# Altium integrated library Linear Technology Power Management Switching Regulator LT1074-LT8705.IntLib: 2252 symbols (part 134 of 148)
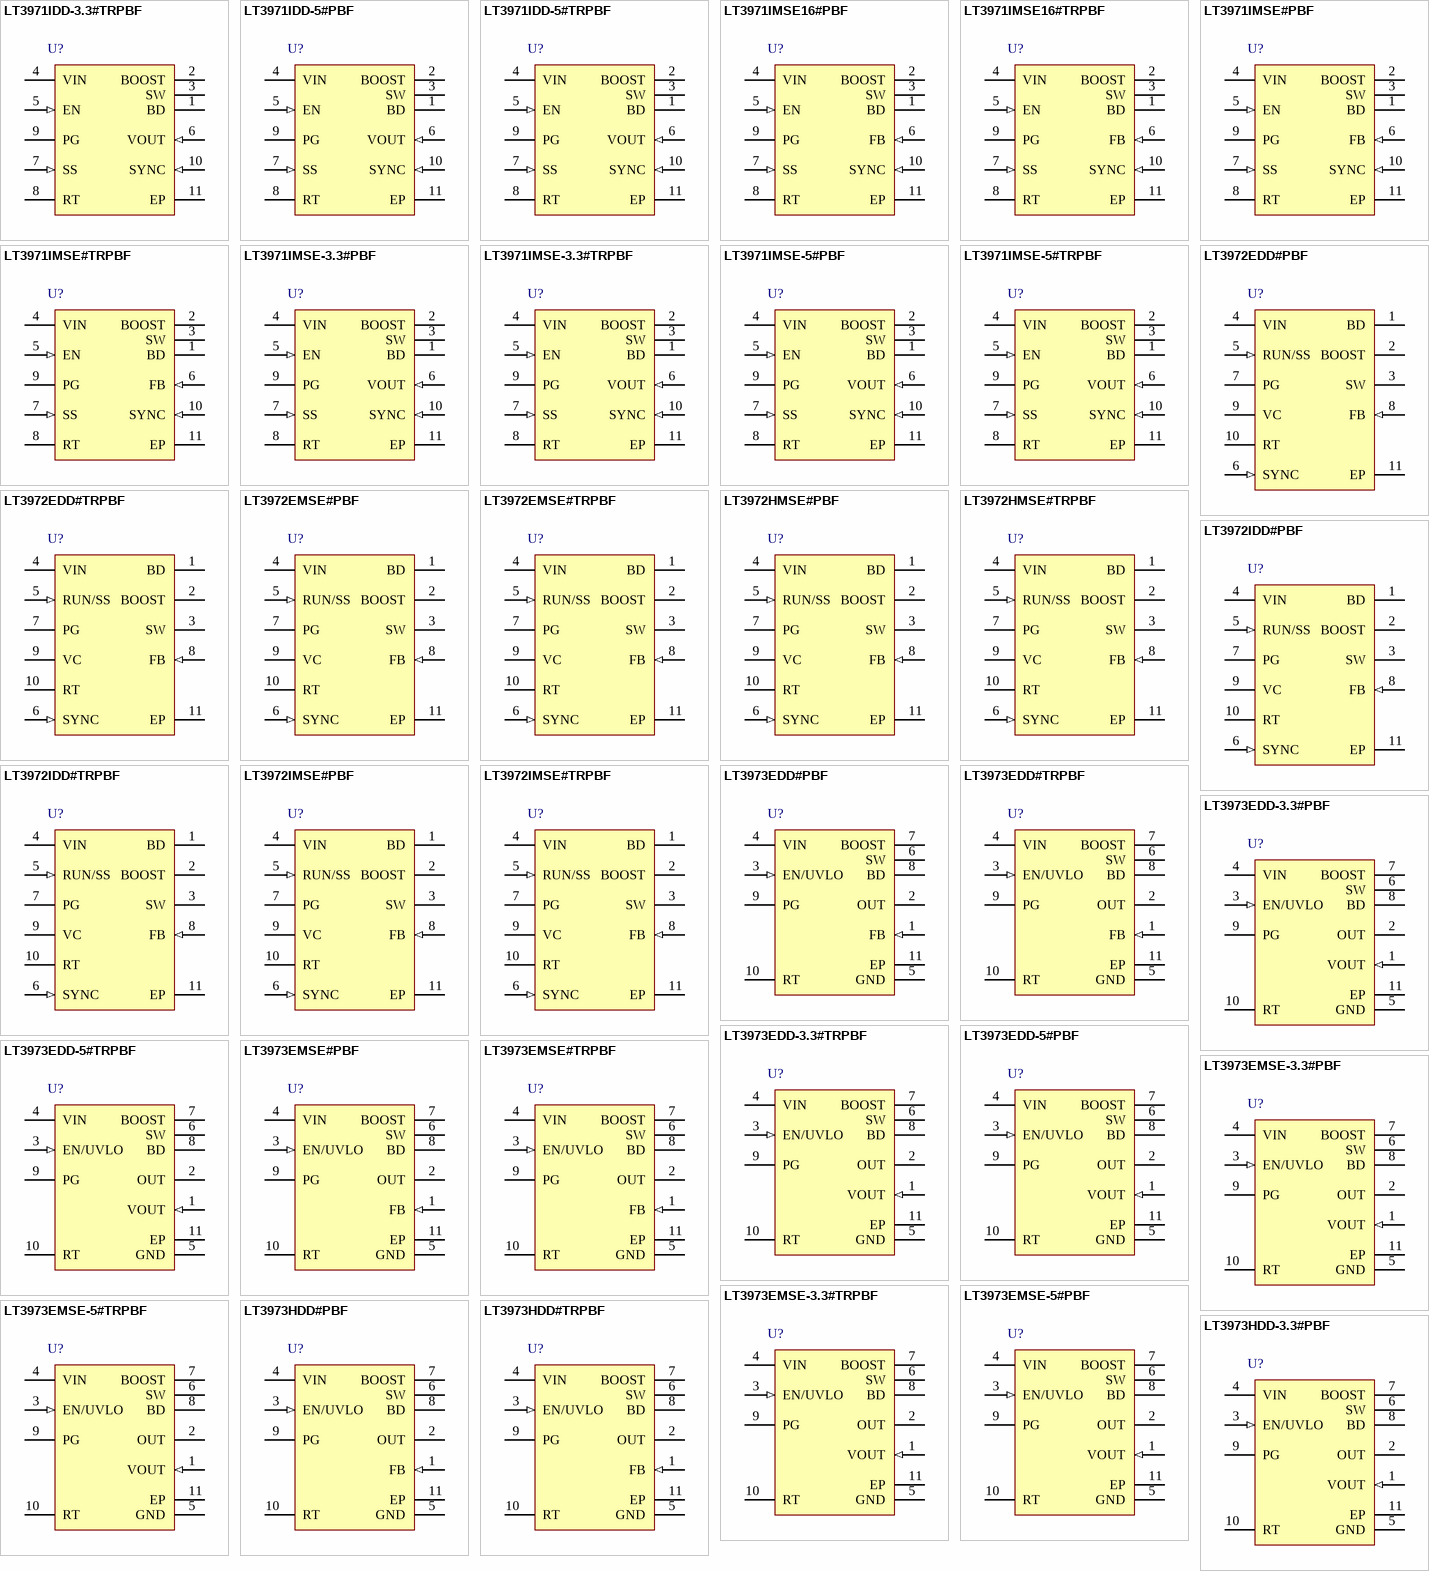
[diagram p204: symbols LT3971IDD-3.3#TRPBF to LT3973HDD-3.3#PBF]

## LT3972IDD#TRPBF
designator U?
3.5 A, 2.4 MHz Step-Down Switching Regulator with 75 uA Quiescent Current, 10-pin SON (DD-10), -40 to 125 degC, Pb-Free, Tape and Reel; Manufacturer: Linear Technology; PartNumber: LT3972IDD#TRPBF; Frequency Adjust Range: 200kHz - 2.4MHz; Number of Outputs: 1; Over Voltage Protection(V): 62; DatasheetVersion: Rev. A; PackageVersion: Rev. C, 06/2010; PackageReference: DD-10; PackageDescription: 10-Pin Plastic DFN, Body 3 x 3 mm, Pitch 0.5 mm; Supplier 1: Digi-Key; Supplier Part Number 1: LT3972IDD#TRPBF-ND; Supplier 2: Newark; Supplier Part Number 2: 31P7620; Packing: Tape and Reel; RoHS: TRUE; Mounting Technology: Surface Mount; Code_JEDEC: MO-229; ComponentLink1Description: Manufacturer URL; ComponentLink1URL: http://www.linear.com/; ComponentLink2Description: Datasheet; ComponentLink2URL: http://cds.linear.com/docs/en/datasheet/3972fa.pdf; ComponentLink3Description: Package Specification; ComponentLink3URL: http://cds.linear.com/docs/en/packaging/DFN_10_05-08-1699.pdf
footprint LT-DD-10_V (SON, 10-Leads, Body 3x3mm, Pitch 0.5mm, Thermal Pad 2.38x1.65mm)
pins: 1 BD (power) "This pin connects to the anode of the boost Schottky diode. BD also supplies current to the internal regulator.", 2 BOOST "This pin is used to provide a drive voltage, higher than the input voltage, to the internal bipolar NPN power switch.", 3 SW (power) "The SW pin is the output of the internal power switch. Connect this pin to the inductor, catch diode and boost capacitor.", 4 VIN (power) "The VIN pin supplies current to internal regulator and to the internal power switch. This pin must be locally bypassed.", 5 RUN/SS (in) "If the shutdown feature is not used, tie this pin to the VIN pin. RUN/SS also provides a soft-start function; see the Applications Information section.", 6 SYNC (in) "This is the external clock synchronization input. Ground this pin for low ripple Burst Mode operation at low output loads. Tie to a clock source for synchronization. Clock edges should have rise and fall times faster than (See Datasheet)", 7 PG (oc) "The PG pin is the open collector output of an internal comparator. PG remains low until the FB pin is within 9% of the final regulation voltage. PG output is valid when VIN is above 3.6V and RUN/SS is high.", 8 FB (in) "Connect the feedback resistor divider tap to this pin.", 9 VC "The VC pin is the output of the internal error amplifier. The voltage on this pin controls the peak switch current. Tie an RC network from this pin to ground to compensate the control loop.", 10 RT "Oscillator Resistor Input. Connecting a resistor to ground from this pin sets the switching frequency.", 11 EP (power) "Ground. The Exposed Pad must be soldered to PCB."

## LT3972IMSE#PBF
designator U?
3.5 A, 2.4 MHz Step-Down Switching Regulator with 75 uA Quiescent Current, 10-pin SOP (MSE-10-EDP), -40 to 125 degC, Pb-Free; Manufacturer: Linear Technology; PartNumber: LT3972IMSE#PBF; Frequency Adjust Range: 200kHz - 2.4MHz; Number of Outputs: 1; Over Voltage Protection(V): 62; DatasheetVersion: Rev. A; PackageVersion: Rev. C, 08/2009; PackageReference: MSE-10; PackageDescription: 10-Pin Plastic MSOP, Exposed Die Pad, Body 3 x 3 mm, Pitch 0.5 mm; Supplier 1: Digi-Key; Supplier Part Number 1: LT3972IMSE#PBF-ND; Supplier 2: Newark; Supplier Part Number 2: 31P7621; RoHS: TRUE; Mounting Technology: Surface Mount; ComponentLink1Description: Manufacturer URL; ComponentLink1URL: http://www.linear.com/; ComponentLink2Description: Datasheet; ComponentLink2URL: http://cds.linear.com/docs/en/datasheet/3972fa.pdf; ComponentLink3Description: Package Specification; ComponentLink3URL: http://cds.linear.com/docs/en/datasheet/3481fc.pdf
footprint LT-MSE-10-EDP-2060x1830TP_N (SOP, 10-Leads, Body 3.1x3.1mm, Pitch 0.5mm, Thermal Pad 2.17x1.94mm, IPC Medium Density)
footprint LT-MSE-10-EDP-2060x1830TP_L (SOP, 10-Leads, Body 3.1x3.1mm, Pitch 0.5mm, Thermal Pad 2.17x1.94mm, IPC High Density)
footprint LT-MSE-10-EDP-2060x1830TP_M (SOP, 10-Leads, Body 3.1x3.1mm, Pitch 0.5mm, Thermal Pad 2.17x1.94mm, IPC Low Density)
pins: 1 BD (power) "This pin connects to the anode of the boost Schottky diode. BD also supplies current to the internal regulator.", 2 BOOST "This pin is used to provide a drive voltage, higher than the input voltage, to the internal bipolar NPN power switch.", 3 SW (power) "The SW pin is the output of the internal power switch. Connect this pin to the inductor, catch diode and boost capacitor.", 4 VIN (power) "The VIN pin supplies current to internal regulator and to the internal power switch. This pin must be locally bypassed.", 5 RUN/SS (in) "If the shutdown feature is not used, tie this pin to the VIN pin. RUN/SS also provides a soft-start function; see the Applications Information section.", 6 SYNC (in) "This is the external clock synchronization input. Ground this pin for low ripple Burst Mode operation at low output loads. Tie to a clock source for synchronization. Clock edges should have rise and fall times faster than (See Datasheet)", 7 PG (oc) "The PG pin is the open collector output of an internal comparator. PG remains low until the FB pin is within 9% of the final regulation voltage. PG output is valid when VIN is above 3.6V and RUN/SS is high.", 8 FB (in) "Connect the feedback resistor divider tap to this pin.", 9 VC "The VC pin is the output of the internal error amplifier. The voltage on this pin controls the peak switch current. Tie an RC network from this pin to ground to compensate the control loop.", 10 RT "Oscillator Resistor Input. Connecting a resistor to ground from this pin sets the switching frequency.", 11 EP (power) "Ground. The Exposed Pad must be soldered to PCB."

## LT3972IMSE#TRPBF
designator U?
3.5 A, 2.4 MHz Step-Down Switching Regulator with 75 uA Quiescent Current, 10-pin SOP (MSE-10-EDP), -40 to 125 degC, Pb-Free, Tape and Reel; Manufacturer: Linear Technology; PartNumber: LT3972IMSE#TRPBF; Frequency Adjust Range: 200kHz - 2.4MHz; Number of Outputs: 1; Over Voltage Protection(V): 62; DatasheetVersion: Rev. A; PackageVersion: Rev. C, 08/2009; PackageReference: MSE-10; PackageDescription: 10-Pin Plastic MSOP, Exposed Die Pad, Body 3 x 3 mm, Pitch 0.5 mm; Supplier 1: Digi-Key; Supplier Part Number 1: LT3972IMSE#TRPBF-ND; Packing: Tape and Reel; RoHS: TRUE; Mounting Technology: Surface Mount; ComponentLink1Description: Manufacturer URL; ComponentLink1URL: http://www.linear.com/; ComponentLink2Description: Datasheet; ComponentLink2URL: http://cds.linear.com/docs/en/datasheet/3972fa.pdf; ComponentLink3Description: Package Specification; ComponentLink3URL: http://cds.linear.com/docs/en/datasheet/3481fc.pdf
footprint LT-MSE-10-EDP-2060x1830TP_N (SOP, 10-Leads, Body 3.1x3.1mm, Pitch 0.5mm, Thermal Pad 2.17x1.94mm, IPC Medium Density)
footprint LT-MSE-10-EDP-2060x1830TP_L (SOP, 10-Leads, Body 3.1x3.1mm, Pitch 0.5mm, Thermal Pad 2.17x1.94mm, IPC High Density)
footprint LT-MSE-10-EDP-2060x1830TP_M (SOP, 10-Leads, Body 3.1x3.1mm, Pitch 0.5mm, Thermal Pad 2.17x1.94mm, IPC Low Density)
pins: 1 BD (power) "This pin connects to the anode of the boost Schottky diode. BD also supplies current to the internal regulator.", 2 BOOST "This pin is used to provide a drive voltage, higher than the input voltage, to the internal bipolar NPN power switch.", 3 SW (power) "The SW pin is the output of the internal power switch. Connect this pin to the inductor, catch diode and boost capacitor.", 4 VIN (power) "The VIN pin supplies current to internal regulator and to the internal power switch. This pin must be locally bypassed.", 5 RUN/SS (in) "If the shutdown feature is not used, tie this pin to the VIN pin. RUN/SS also provides a soft-start function; see the Applications Information section.", 6 SYNC (in) "This is the external clock synchronization input. Ground this pin for low ripple Burst Mode operation at low output loads. Tie to a clock source for synchronization. Clock edges should have rise and fall times faster than (See Datasheet)", 7 PG (oc) "The PG pin is the open collector output of an internal comparator. PG remains low until the FB pin is within 9% of the final regulation voltage. PG output is valid when VIN is above 3.6V and RUN/SS is high.", 8 FB (in) "Connect the feedback resistor divider tap to this pin.", 9 VC "The VC pin is the output of the internal error amplifier. The voltage on this pin controls the peak switch current. Tie an RC network from this pin to ground to compensate the control loop.", 10 RT "Oscillator Resistor Input. Connecting a resistor to ground from this pin sets the switching frequency.", 11 EP (power) "Ground. The Exposed Pad must be soldered to PCB."

## LT3973EDD#PBF
designator U?
750 mA Step-Down Regulator with 2.5 uA Quiescent Current and Integrated Diodes, 10-pin SON (DD-10), -40 to 125 degC, Pb-Free; Manufacturer: Linear Technology; PartNumber: LT3973EDD#PBF; Frequency Adjust Range: 200kHz - 2.2MHz; Number of Outputs: 1; DatasheetVersion: Rev. A; PackageVersion: Rev. C, 06/2010; PackageReference: DD-10; PackageDescription: 10-Pin Plastic DFN, Body 3 x 3 mm, Pitch 0.5 mm; Supplier 1: Digi-Key; Supplier Part Number 1: LT3973EDD#PBF-ND; Supplier 2: Newark; Supplier Part Number 2: 78T4075; RoHS: TRUE; Mounting Technology: Surface Mount; Code_JEDEC: MO-229; ComponentLink1Description: Manufacturer URL; ComponentLink1URL: http://www.linear.com/; ComponentLink2Description: Datasheet; ComponentLink2URL: http://cds.linear.com/docs/en/datasheet/3973fa.pdf; ComponentLink3Description: Package Specification; ComponentLink3URL: http://cds.linear.com/docs/en/packaging/DFN_10_05-08-1699.pdf
footprint LT-DD-10_V (SON, 10-Leads, Body 3x3mm, Pitch 0.5mm, Thermal Pad 2.38x1.65mm)
pins: 1 FB (in) "The LT3973 regulates the FB  pin to 1.21V. Connect the feedback resistor divider tap  to this pin.", 2 OUT (power) "The LT3973 regulates the VIN to VOUT voltage for dropout conditions. It will also pull current from this pin to charge the boost capacitor when needed. Connect this pin to the output. If programmed output is greater than (See Datasheet)", 3 EN/UVLO (in) "The part is in shutdown when this pin is low and active when this pin is high. The threshold voltage is 1.19V going up with 30mV of hysteresis. Tie to VIN if shutdown feature is not used. The EN/UVLO threshold is accurate (See Datasheet)", 4 VIN (power) "The VIN pin supplies current to the LT3973's  internal circuitry and to the internal power switch. This pin must be locally bypassed.", 5 GND (power) "Ground. The exposed pad must be soldered to the PCB.", 6 SW (power) "The SW pin is the output of an internal power switch. Connect this pin to the inductor.", 7 BOOST "This pin is used to provide a drive voltage, higher than the input voltage, to the internal bipolar NPN power switch.", 8 BD (power) "This pin connects to the anode of the boost diode. This pin also supplies current to the LT3973's internal  regulator when BD is above 3.2V.", 9 PG (oc) "The PG pin is the open-drain output of an internal comparator. PG remains low until the FB pin is within 10% of the final regulation voltage. PG is valid when VIN is above 4.2V and EN/UVLO is high.", 10 RT "A resistor is tied between RT and ground to set the switching frequency.", 11 EP (power) "Ground. The exposed pad must be soldered to the PCB."

## LT3973EDD#TRPBF
designator U?
750 mA Step-Down Regulator with 2.5 uA Quiescent Current and Integrated Diodes, 10-pin SON (DD-10), -40 to 125 degC, Pb-Free, Tape and Reel; Manufacturer: Linear Technology; PartNumber: LT3973EDD#TRPBF; Frequency Adjust Range: 200kHz - 2.2MHz; Number of Outputs: 1; DatasheetVersion: Rev. A; PackageVersion: Rev. C, 06/2010; PackageReference: DD-10; PackageDescription: 10-Pin Plastic DFN, Body 3 x 3 mm, Pitch 0.5 mm; Supplier 1: Digi-Key; Supplier Part Number 1: LT3973EDD#TRPBF-ND; Supplier 2: Newark; Supplier Part Number 2: 78T4076; Packing: Tape and Reel; RoHS: TRUE; Mounting Technology: Surface Mount; Code_JEDEC: MO-229; ComponentLink1Description: Manufacturer URL; ComponentLink1URL: http://www.linear.com/; ComponentLink2Description: Datasheet; ComponentLink2URL: http://cds.linear.com/docs/en/datasheet/3973fa.pdf; ComponentLink3Description: Package Specification; ComponentLink3URL: http://cds.linear.com/docs/en/packaging/DFN_10_05-08-1699.pdf
footprint LT-DD-10_V (SON, 10-Leads, Body 3x3mm, Pitch 0.5mm, Thermal Pad 2.38x1.65mm)
pins: 1 FB (in) "The LT3973 regulates the FB  pin to 1.21V. Connect the feedback resistor divider tap  to this pin.", 2 OUT (power) "The LT3973 regulates the VIN to VOUT voltage for dropout conditions. It will also pull current from this pin to charge the boost capacitor when needed. Connect this pin to the output. If programmed output is greater than (See Datasheet)", 3 EN/UVLO (in) "The part is in shutdown when this pin is low and active when this pin is high. The threshold voltage is 1.19V going up with 30mV of hysteresis. Tie to VIN if shutdown feature is not used. The EN/UVLO threshold is accurate (See Datasheet)", 4 VIN (power) "The VIN pin supplies current to the LT3973's  internal circuitry and to the internal power switch. This pin must be locally bypassed.", 5 GND (power) "Ground. The exposed pad must be soldered to the PCB.", 6 SW (power) "The SW pin is the output of an internal power switch. Connect this pin to the inductor.", 7 BOOST "This pin is used to provide a drive voltage, higher than the input voltage, to the internal bipolar NPN power switch.", 8 BD (power) "This pin connects to the anode of the boost diode. This pin also supplies current to the LT3973's internal  regulator when BD is above 3.2V.", 9 PG (oc) "The PG pin is the open-drain output of an internal comparator. PG remains low until the FB pin is within 10% of the final regulation voltage. PG is valid when VIN is above 4.2V and EN/UVLO is high.", 10 RT "A resistor is tied between RT and ground to set the switching frequency.", 11 EP (power) "Ground. The exposed pad must be soldered to the PCB."

## LT3973EDD-3.3#PBF
designator U?
750 mA Step-Down Regulator with 2.5 uA Quiescent Current and Integrated Diodes, 10-pin SON (DD-10), -40 to 125 degC, Pb-Free; Manufacturer: Linear Technology; PartNumber: LT3973EDD-3.3#PBF; Frequency Adjust Range: 200kHz - 2.2MHz; Number of Outputs: 1; DatasheetVersion: Rev. A; PackageVersion: Rev. C, 06/2010; PackageReference: DD-10; PackageDescription: 10-Pin Plastic DFN, Body 3 x 3 mm, Pitch 0.5 mm; Supplier 1: Digi-Key; Supplier Part Number 1: LT3973EDD-3.3#PBF-ND; Supplier 2: Farnell; Supplier Part Number 2: 2115829; Supplier 3: Newark; Supplier Part Number 3: 94T2265; RoHS: TRUE; Mounting Technology: Surface Mount; Code_JEDEC: MO-229; ComponentLink1Description: Manufacturer URL; ComponentLink1URL: http://www.linear.com/; ComponentLink2Description: Datasheet; ComponentLink2URL: http://cds.linear.com/docs/en/datasheet/3973fa.pdf; ComponentLink3Description: Package Specification; ComponentLink3URL: http://cds.linear.com/docs/en/packaging/DFN_10_05-08-1699.pdf
footprint LT-DD-10_V (SON, 10-Leads, Body 3x3mm, Pitch 0.5mm, Thermal Pad 2.38x1.65mm)
pins: 1 VOUT (in) "The  LT3973-3.3 and LT3973-5 regulate the VOUT pin to 3.3V  and 5V, respectively. This pin connects to the internal feedback divider that programs the fixed output voltage.", 2 OUT (power) "The LT3973 regulates the VIN to VOUT voltage for dropout conditions. It will also pull current from this pin to charge the boost capacitor when needed. Connect this pin to the output. If programmed output is greater than (See Datasheet)", 3 EN/UVLO (in) "The part is in shutdown when this pin is low and active when this pin is high. The threshold voltage is 1.19V going up with 30mV of hysteresis. Tie to VIN if shutdown feature is not used. The EN/UVLO threshold is accurate (See Datasheet)", 4 VIN (power) "The VIN pin supplies current to the LT3973's  internal circuitry and to the internal power switch. This pin must be locally bypassed.", 5 GND (power) "Ground. The exposed pad must be soldered to the PCB.", 6 SW (power) "The SW pin is the output of an internal power switch. Connect this pin to the inductor.", 7 BOOST "This pin is used to provide a drive voltage, higher than the input voltage, to the internal bipolar NPN power switch.", 8 BD (power) "This pin connects to the anode of the boost diode. This pin also supplies current to the LT3973's internal  regulator when BD is above 3.2V.", 9 PG (oc) "The PG pin is the open-drain output of an internal comparator. PG remains low until the FB pin is within 10% of the final regulation voltage. PG is valid when VIN is above 4.2V and EN/UVLO is high.", 10 RT "A resistor is tied between RT and ground to set the switching frequency.", 11 EP (power) "Ground. The exposed pad must be soldered to the PCB."

## LT3973EDD-3.3#TRPBF
designator U?
750 mA Step-Down Regulator with 2.5 uA Quiescent Current and Integrated Diodes, 10-pin SON (DD-10), -40 to 125 degC, Pb-Free, Tape and Reel; Manufacturer: Linear Technology; PartNumber: LT3973EDD-3.3#TRPBF; Frequency Adjust Range: 200kHz - 2.2MHz; Number of Outputs: 1; DatasheetVersion: Rev. A; PackageVersion: Rev. C, 06/2010; PackageReference: DD-10; PackageDescription: 10-Pin Plastic DFN, Body 3 x 3 mm, Pitch 0.5 mm; Supplier 1: Digi-Key; Supplier Part Number 1: LT3973EDD-3.3#TRPBF-ND; Packing: Tape and Reel; RoHS: TRUE; Mounting Technology: Surface Mount; Code_JEDEC: MO-229; ComponentLink1Description: Manufacturer URL; ComponentLink1URL: http://www.linear.com/; ComponentLink2Description: Datasheet; ComponentLink2URL: http://cds.linear.com/docs/en/datasheet/3973fa.pdf; ComponentLink3Description: Package Specification; ComponentLink3URL: http://cds.linear.com/docs/en/packaging/DFN_10_05-08-1699.pdf
footprint LT-DD-10_V (SON, 10-Leads, Body 3x3mm, Pitch 0.5mm, Thermal Pad 2.38x1.65mm)
pins: 1 VOUT (in) "The  LT3973-3.3 and LT3973-5 regulate the VOUT pin to 3.3V  and 5V, respectively. This pin connects to the internal feedback divider that programs the fixed output voltage.", 2 OUT (power) "The LT3973 regulates the VIN to VOUT voltage for dropout conditions. It will also pull current from this pin to charge the boost capacitor when needed. Connect this pin to the output. If programmed output is greater than (See Datasheet)", 3 EN/UVLO (in) "The part is in shutdown when this pin is low and active when this pin is high. The threshold voltage is 1.19V going up with 30mV of hysteresis. Tie to VIN if shutdown feature is not used. The EN/UVLO threshold is accurate (See Datasheet)", 4 VIN (power) "The VIN pin supplies current to the LT3973's  internal circuitry and to the internal power switch. This pin must be locally bypassed.", 5 GND (power) "Ground. The exposed pad must be soldered to the PCB.", 6 SW (power) "The SW pin is the output of an internal power switch. Connect this pin to the inductor.", 7 BOOST "This pin is used to provide a drive voltage, higher than the input voltage, to the internal bipolar NPN power switch.", 8 BD (power) "This pin connects to the anode of the boost diode. This pin also supplies current to the LT3973's internal  regulator when BD is above 3.2V.", 9 PG (oc) "The PG pin is the open-drain output of an internal comparator. PG remains low until the FB pin is within 10% of the final regulation voltage. PG is valid when VIN is above 4.2V and EN/UVLO is high.", 10 RT "A resistor is tied between RT and ground to set the switching frequency.", 11 EP (power) "Ground. The exposed pad must be soldered to the PCB."

## LT3973EDD-5#PBF
designator U?
750 mA Step-Down Regulator with 2.5 uA Quiescent Current and Integrated Diodes, 10-pin SON (DD-10), -40 to 125 degC, Pb-Free; Manufacturer: Linear Technology; PartNumber: LT3973EDD-5#PBF; Frequency Adjust Range: 200kHz - 2.2MHz; Number of Outputs: 1; DatasheetVersion: Rev. A; PackageVersion: Rev. C, 06/2010; PackageReference: DD-10; PackageDescription: 10-Pin Plastic DFN, Body 3 x 3 mm, Pitch 0.5 mm; Supplier 1: Digi-Key; Supplier Part Number 1: LT3973EDD-5#PBF-ND; Supplier 2: Farnell; Supplier Part Number 2: 2115830; Supplier 3: Newark; Supplier Part Number 3: 94T2267; RoHS: TRUE; Mounting Technology: Surface Mount; Code_JEDEC: MO-229; ComponentLink1Description: Manufacturer URL; ComponentLink1URL: http://www.linear.com/; ComponentLink2Description: Datasheet; ComponentLink2URL: http://cds.linear.com/docs/en/datasheet/3973fa.pdf; ComponentLink3Description: Package Specification; ComponentLink3URL: http://cds.linear.com/docs/en/packaging/DFN_10_05-08-1699.pdf
footprint LT-DD-10_V (SON, 10-Leads, Body 3x3mm, Pitch 0.5mm, Thermal Pad 2.38x1.65mm)
pins: 1 VOUT (in) "The  LT3973-3.3 and LT3973-5 regulate the VOUT pin to 3.3V  and 5V, respectively. This pin connects to the internal feedback divider that programs the fixed output voltage.", 2 OUT (power) "The LT3973 regulates the VIN to VOUT voltage for dropout conditions. It will also pull current from this pin to charge the boost capacitor when needed. Connect this pin to the output. If programmed output is greater than (See Datasheet)", 3 EN/UVLO (in) "The part is in shutdown when this pin is low and active when this pin is high. The threshold voltage is 1.19V going up with 30mV of hysteresis. Tie to VIN if shutdown feature is not used. The EN/UVLO threshold is accurate (See Datasheet)", 4 VIN (power) "The VIN pin supplies current to the LT3973's  internal circuitry and to the internal power switch. This pin must be locally bypassed.", 5 GND (power) "Ground. The exposed pad must be soldered to the PCB.", 6 SW (power) "The SW pin is the output of an internal power switch. Connect this pin to the inductor.", 7 BOOST "This pin is used to provide a drive voltage, higher than the input voltage, to the internal bipolar NPN power switch.", 8 BD (power) "This pin connects to the anode of the boost diode. This pin also supplies current to the LT3973's internal  regulator when BD is above 3.2V.", 9 PG (oc) "The PG pin is the open-drain output of an internal comparator. PG remains low until the FB pin is within 10% of the final regulation voltage. PG is valid when VIN is above 4.2V and EN/UVLO is high.", 10 RT "A resistor is tied between RT and ground to set the switching frequency.", 11 EP (power) "Ground. The exposed pad must be soldered to the PCB."

## LT3973EDD-5#TRPBF
designator U?
750 mA Step-Down Regulator with 2.5 uA Quiescent Current and Integrated Diodes, 10-pin SON (DD-10), -40 to 125 degC, Pb-Free, Tape and Reel; Manufacturer: Linear Technology; PartNumber: LT3973EDD-5#TRPBF; Frequency Adjust Range: 200kHz - 2.2MHz; Number of Outputs: 1; DatasheetVersion: Rev. A; PackageVersion: Rev. C, 06/2010; PackageReference: DD-10; PackageDescription: 10-Pin Plastic DFN, Body 3 x 3 mm, Pitch 0.5 mm; Supplier 1: Digi-Key; Supplier Part Number 1: LT3973EDD-5#TRPBF-ND; Packing: Tape and Reel; RoHS: TRUE; Mounting Technology: Surface Mount; Code_JEDEC: MO-229; ComponentLink1Description: Manufacturer URL; ComponentLink1URL: http://www.linear.com/; ComponentLink2Description: Datasheet; ComponentLink2URL: http://cds.linear.com/docs/en/datasheet/3973fa.pdf; ComponentLink3Description: Package Specification; ComponentLink3URL: http://cds.linear.com/docs/en/packaging/DFN_10_05-08-1699.pdf
footprint LT-DD-10_V (SON, 10-Leads, Body 3x3mm, Pitch 0.5mm, Thermal Pad 2.38x1.65mm)
pins: 1 VOUT (in) "The  LT3973-3.3 and LT3973-5 regulate the VOUT pin to 3.3V  and 5V, respectively. This pin connects to the internal feedback divider that programs the fixed output voltage.", 2 OUT (power) "The LT3973 regulates the VIN to VOUT voltage for dropout conditions. It will also pull current from this pin to charge the boost capacitor when needed. Connect this pin to the output. If programmed output is greater than (See Datasheet)", 3 EN/UVLO (in) "The part is in shutdown when this pin is low and active when this pin is high. The threshold voltage is 1.19V going up with 30mV of hysteresis. Tie to VIN if shutdown feature is not used. The EN/UVLO threshold is accurate (See Datasheet)", 4 VIN (power) "The VIN pin supplies current to the LT3973's  internal circuitry and to the internal power switch. This pin must be locally bypassed.", 5 GND (power) "Ground. The exposed pad must be soldered to the PCB.", 6 SW (power) "The SW pin is the output of an internal power switch. Connect this pin to the inductor.", 7 BOOST "This pin is used to provide a drive voltage, higher than the input voltage, to the internal bipolar NPN power switch.", 8 BD (power) "This pin connects to the anode of the boost diode. This pin also supplies current to the LT3973's internal  regulator when BD is above 3.2V.", 9 PG (oc) "The PG pin is the open-drain output of an internal comparator. PG remains low until the FB pin is within 10% of the final regulation voltage. PG is valid when VIN is above 4.2V and EN/UVLO is high.", 10 RT "A resistor is tied between RT and ground to set the switching frequency.", 11 EP (power) "Ground. The exposed pad must be soldered to the PCB."

## LT3973EMSE#PBF
designator U?
750 mA Step-Down Regulator with 2.5 uA Quiescent Current and Integrated Diodes, 10-pin SOP (MSE-10-EDP), -40 to 125 degC, Pb-Free; Manufacturer: Linear Technology; PartNumber: LT3973EMSE#PBF; Frequency Adjust Range: 200kHz - 2.2MHz; Number of Outputs: 1; DatasheetVersion: Rev. A; PackageVersion: Rev. I, 05/2013; PackageReference: MSE-10; PackageDescription: 10-Pin Plastic MSOP, Exposed Die Pad, Body 3 x 3 mm, Pitch 0.5 mm; Supplier 1: Digi-Key; Supplier Part Number 1: LT3973EMSE#PBF-ND; Supplier 2: Farnell; Supplier Part Number 2: 2097880; Supplier 3: Newark; Supplier Part Number 3: 78T4077; RoHS: TRUE; Mounting Technology: Surface Mount; ComponentLink1Description: Manufacturer URL; ComponentLink1URL: http://www.linear.com/; ComponentLink2Description: Datasheet; ComponentLink2URL: http://cds.linear.com/docs/en/datasheet/3973fa.pdf; ComponentLink3Description: Package Specification; ComponentLink3URL: http://cds.linear.com/docs/en/packaging/05081664_I_MSE.pdf
footprint LT-MSE-10-EDP_N (SOP, 10-Leads, Body 3.1x3.1mm, Pitch 0.5mm, Thermal Pad 1.88x1.68mm, IPC Medium Density)
footprint LT-MSE-10-EDP_L (SOP, 10-Leads, Body 3.1x3.1mm, Pitch 0.5mm, Thermal Pad 1.88x1.68mm, IPC High Density)
footprint LT-MSE-10-EDP_M (SOP, 10-Leads, Body 3.1x3.1mm, Pitch 0.5mm, Thermal Pad 1.88x1.68mm, IPC Low Density)
pins: 1 FB (in) "The LT3973 regulates the FB  pin to 1.21V. Connect the feedback resistor divider tap  to this pin.", 2 OUT (power) "The LT3973 regulates the VIN to VOUT voltage for dropout conditions. It will also pull current from this pin to charge the boost capacitor when needed. Connect this pin to the output. If programmed output is greater than (See Datasheet)", 3 EN/UVLO (in) "The part is in shutdown when this pin is low and active when this pin is high. The threshold voltage is 1.19V going up with 30mV of hysteresis. Tie to VIN if shutdown feature is not used. The EN/UVLO threshold is accurate (See Datasheet)", 4 VIN (power) "The VIN pin supplies current to the LT3973's  internal circuitry and to the internal power switch. This pin must be locally bypassed.", 5 GND (power) "Ground. The exposed pad must be soldered to the PCB.", 6 SW (power) "The SW pin is the output of an internal power switch. Connect this pin to the inductor.", 7 BOOST "This pin is used to provide a drive voltage, higher than the input voltage, to the internal bipolar NPN power switch.", 8 BD (power) "This pin connects to the anode of the boost diode. This pin also supplies current to the LT3973's internal  regulator when BD is above 3.2V.", 9 PG (oc) "The PG pin is the open-drain output of an internal comparator. PG remains low until the FB pin is within 10% of the final regulation voltage. PG is valid when VIN is above 4.2V and EN/UVLO is high.", 10 RT "A resistor is tied between RT and ground to set the switching frequency.", 11 EP (power) "Ground. The exposed pad must be soldered to the PCB."

## LT3973EMSE#TRPBF
designator U?
750 mA Step-Down Regulator with 2.5 uA Quiescent Current and Integrated Diodes, 10-pin SOP (MSE-10-EDP), -40 to 125 degC, Pb-Free, Tape and Reel; Manufacturer: Linear Technology; PartNumber: LT3973EMSE#TRPBF; Frequency Adjust Range: 200kHz - 2.2MHz; Number of Outputs: 1; DatasheetVersion: Rev. A; PackageVersion: Rev. I, 05/2013; PackageReference: MSE-10; PackageDescription: 10-Pin Plastic MSOP, Exposed Die Pad, Body 3 x 3 mm, Pitch 0.5 mm; Supplier 1: Digi-Key; Supplier Part Number 1: LT3973EMSE#TRPBF-ND; Supplier 2: Newark; Supplier Part Number 2: 78T4078; Packing: Tape and Reel; RoHS: TRUE; Mounting Technology: Surface Mount; ComponentLink1Description: Manufacturer URL; ComponentLink1URL: http://www.linear.com/; ComponentLink2Description: Datasheet; ComponentLink2URL: http://cds.linear.com/docs/en/datasheet/3973fa.pdf; ComponentLink3Description: Package Specification; ComponentLink3URL: http://cds.linear.com/docs/en/packaging/05081664_I_MSE.pdf
footprint LT-MSE-10-EDP_N (SOP, 10-Leads, Body 3.1x3.1mm, Pitch 0.5mm, Thermal Pad 1.88x1.68mm, IPC Medium Density)
footprint LT-MSE-10-EDP_L (SOP, 10-Leads, Body 3.1x3.1mm, Pitch 0.5mm, Thermal Pad 1.88x1.68mm, IPC High Density)
footprint LT-MSE-10-EDP_M (SOP, 10-Leads, Body 3.1x3.1mm, Pitch 0.5mm, Thermal Pad 1.88x1.68mm, IPC Low Density)
pins: 1 FB (in) "The LT3973 regulates the FB  pin to 1.21V. Connect the feedback resistor divider tap  to this pin.", 2 OUT (power) "The LT3973 regulates the VIN to VOUT voltage for dropout conditions. It will also pull current from this pin to charge the boost capacitor when needed. Connect this pin to the output. If programmed output is greater than (See Datasheet)", 3 EN/UVLO (in) "The part is in shutdown when this pin is low and active when this pin is high. The threshold voltage is 1.19V going up with 30mV of hysteresis. Tie to VIN if shutdown feature is not used. The EN/UVLO threshold is accurate (See Datasheet)", 4 VIN (power) "The VIN pin supplies current to the LT3973's  internal circuitry and to the internal power switch. This pin must be locally bypassed.", 5 GND (power) "Ground. The exposed pad must be soldered to the PCB.", 6 SW (power) "The SW pin is the output of an internal power switch. Connect this pin to the inductor.", 7 BOOST "This pin is used to provide a drive voltage, higher than the input voltage, to the internal bipolar NPN power switch.", 8 BD (power) "This pin connects to the anode of the boost diode. This pin also supplies current to the LT3973's internal  regulator when BD is above 3.2V.", 9 PG (oc) "The PG pin is the open-drain output of an internal comparator. PG remains low until the FB pin is within 10% of the final regulation voltage. PG is valid when VIN is above 4.2V and EN/UVLO is high.", 10 RT "A resistor is tied between RT and ground to set the switching frequency.", 11 EP (power) "Ground. The exposed pad must be soldered to the PCB."

## LT3973EMSE-3.3#PBF
designator U?
750 mA Step-Down Regulator with 2.5 uA Quiescent Current and Integrated Diodes, 10-pin SOP (MSE-10-EDP), -40 to 125 degC, Pb-Free; Manufacturer: Linear Technology; PartNumber: LT3973EMSE-3.3#PBF; Frequency Adjust Range: 200kHz - 2.2MHz; Number of Outputs: 1; DatasheetVersion: Rev. A; PackageVersion: Rev. I, 05/2013; PackageReference: MSE-10; PackageDescription: 10-Pin Plastic MSOP, Exposed Die Pad, Body 3 x 3 mm, Pitch 0.5 mm; Supplier 1: Digi-Key; Supplier Part Number 1: LT3973EMSE-3.3#PBF-ND; Supplier 2: Farnell; Supplier Part Number 2: 2115831; RoHS: TRUE; Mounting Technology: Surface Mount; ComponentLink1Description: Manufacturer URL; ComponentLink1URL: http://www.linear.com/; ComponentLink2Description: Datasheet; ComponentLink2URL: http://cds.linear.com/docs/en/datasheet/3973fa.pdf; ComponentLink3Description: Package Specification; ComponentLink3URL: http://cds.linear.com/docs/en/packaging/05081664_I_MSE.pdf
footprint LT-MSE-10-EDP_N (SOP, 10-Leads, Body 3.1x3.1mm, Pitch 0.5mm, Thermal Pad 1.88x1.68mm, IPC Medium Density)
footprint LT-MSE-10-EDP_L (SOP, 10-Leads, Body 3.1x3.1mm, Pitch 0.5mm, Thermal Pad 1.88x1.68mm, IPC High Density)
footprint LT-MSE-10-EDP_M (SOP, 10-Leads, Body 3.1x3.1mm, Pitch 0.5mm, Thermal Pad 1.88x1.68mm, IPC Low Density)
pins: 1 VOUT (in) "The  LT3973-3.3 and LT3973-5 regulate the VOUT pin to 3.3V  and 5V, respectively. This pin connects to the internal feedback divider that programs the fixed output voltage.", 2 OUT (power) "The LT3973 regulates the VIN to VOUT voltage for dropout conditions. It will also pull current from this pin to charge the boost capacitor when needed. Connect this pin to the output. If programmed output is greater than (See Datasheet)", 3 EN/UVLO (in) "The part is in shutdown when this pin is low and active when this pin is high. The threshold voltage is 1.19V going up with 30mV of hysteresis. Tie to VIN if shutdown feature is not used. The EN/UVLO threshold is accurate (See Datasheet)", 4 VIN (power) "The VIN pin supplies current to the LT3973's  internal circuitry and to the internal power switch. This pin must be locally bypassed.", 5 GND (power) "Ground. The exposed pad must be soldered to the PCB.", 6 SW (power) "The SW pin is the output of an internal power switch. Connect this pin to the inductor.", 7 BOOST "This pin is used to provide a drive voltage, higher than the input voltage, to the internal bipolar NPN power switch.", 8 BD (power) "This pin connects to the anode of the boost diode. This pin also supplies current to the LT3973's internal  regulator when BD is above 3.2V.", 9 PG (oc) "The PG pin is the open-drain output of an internal comparator. PG remains low until the FB pin is within 10% of the final regulation voltage. PG is valid when VIN is above 4.2V and EN/UVLO is high.", 10 RT "A resistor is tied between RT and ground to set the switching frequency.", 11 EP (power) "Ground. The exposed pad must be soldered to the PCB."

## LT3973EMSE-3.3#TRPBF
designator U?
750 mA Step-Down Regulator with 2.5 uA Quiescent Current and Integrated Diodes, 10-pin SOP (MSE-10-EDP), -40 to 125 degC, Pb-Free, Tape and Reel; Manufacturer: Linear Technology; PartNumber: LT3973EMSE-3.3#TRPBF; Frequency Adjust Range: 200kHz - 2.2MHz; Number of Outputs: 1; DatasheetVersion: Rev. A; PackageVersion: Rev. I, 05/2013; PackageReference: MSE-10; PackageDescription: 10-Pin Plastic MSOP, Exposed Die Pad, Body 3 x 3 mm, Pitch 0.5 mm; Supplier 1: Digi-Key; Supplier Part Number 1: LT3973EMSE-3.3#TRPBF-ND; Packing: Tape and Reel; RoHS: TRUE; Mounting Technology: Surface Mount; ComponentLink1Description: Manufacturer URL; ComponentLink1URL: http://www.linear.com/; ComponentLink2Description: Datasheet; ComponentLink2URL: http://cds.linear.com/docs/en/datasheet/3973fa.pdf; ComponentLink3Description: Package Specification; ComponentLink3URL: http://cds.linear.com/docs/en/packaging/05081664_I_MSE.pdf
footprint LT-MSE-10-EDP_N (SOP, 10-Leads, Body 3.1x3.1mm, Pitch 0.5mm, Thermal Pad 1.88x1.68mm, IPC Medium Density)
footprint LT-MSE-10-EDP_L (SOP, 10-Leads, Body 3.1x3.1mm, Pitch 0.5mm, Thermal Pad 1.88x1.68mm, IPC High Density)
footprint LT-MSE-10-EDP_M (SOP, 10-Leads, Body 3.1x3.1mm, Pitch 0.5mm, Thermal Pad 1.88x1.68mm, IPC Low Density)
pins: 1 VOUT (in) "The  LT3973-3.3 and LT3973-5 regulate the VOUT pin to 3.3V  and 5V, respectively. This pin connects to the internal feedback divider that programs the fixed output voltage.", 2 OUT (power) "The LT3973 regulates the VIN to VOUT voltage for dropout conditions. It will also pull current from this pin to charge the boost capacitor when needed. Connect this pin to the output. If programmed output is greater than (See Datasheet)", 3 EN/UVLO (in) "The part is in shutdown when this pin is low and active when this pin is high. The threshold voltage is 1.19V going up with 30mV of hysteresis. Tie to VIN if shutdown feature is not used. The EN/UVLO threshold is accurate (See Datasheet)", 4 VIN (power) "The VIN pin supplies current to the LT3973's  internal circuitry and to the internal power switch. This pin must be locally bypassed.", 5 GND (power) "Ground. The exposed pad must be soldered to the PCB.", 6 SW (power) "The SW pin is the output of an internal power switch. Connect this pin to the inductor.", 7 BOOST "This pin is used to provide a drive voltage, higher than the input voltage, to the internal bipolar NPN power switch.", 8 BD (power) "This pin connects to the anode of the boost diode. This pin also supplies current to the LT3973's internal  regulator when BD is above 3.2V.", 9 PG (oc) "The PG pin is the open-drain output of an internal comparator. PG remains low until the FB pin is within 10% of the final regulation voltage. PG is valid when VIN is above 4.2V and EN/UVLO is high.", 10 RT "A resistor is tied between RT and ground to set the switching frequency.", 11 EP (power) "Ground. The exposed pad must be soldered to the PCB."

## LT3973EMSE-5#PBF
designator U?
750 mA Step-Down Regulator with 2.5 uA Quiescent Current and Integrated Diodes, 10-pin SOP (MSE-10-EDP), -40 to 125 degC, Pb-Free; Manufacturer: Linear Technology; PartNumber: LT3973EMSE-5#PBF; Frequency Adjust Range: 200kHz - 2.2MHz; Number of Outputs: 1; DatasheetVersion: Rev. A; PackageVersion: Rev. I, 05/2013; PackageReference: MSE-10; PackageDescription: 10-Pin Plastic MSOP, Exposed Die Pad, Body 3 x 3 mm, Pitch 0.5 mm; Supplier 1: Digi-Key; Supplier Part Number 1: LT3973EMSE-5#PBF-ND; Supplier 2: Farnell; Supplier Part Number 2: 2115832; RoHS: TRUE; Mounting Technology: Surface Mount; ComponentLink1Description: Manufacturer URL; ComponentLink1URL: http://www.linear.com/; ComponentLink2Description: Datasheet; ComponentLink2URL: http://cds.linear.com/docs/en/datasheet/3973fa.pdf; ComponentLink3Description: Package Specification; ComponentLink3URL: http://cds.linear.com/docs/en/packaging/05081664_I_MSE.pdf
footprint LT-MSE-10-EDP_N (SOP, 10-Leads, Body 3.1x3.1mm, Pitch 0.5mm, Thermal Pad 1.88x1.68mm, IPC Medium Density)
footprint LT-MSE-10-EDP_L (SOP, 10-Leads, Body 3.1x3.1mm, Pitch 0.5mm, Thermal Pad 1.88x1.68mm, IPC High Density)
footprint LT-MSE-10-EDP_M (SOP, 10-Leads, Body 3.1x3.1mm, Pitch 0.5mm, Thermal Pad 1.88x1.68mm, IPC Low Density)
pins: 1 VOUT (in) "The  LT3973-3.3 and LT3973-5 regulate the VOUT pin to 3.3V  and 5V, respectively. This pin connects to the internal feedback divider that programs the fixed output voltage.", 2 OUT (power) "The LT3973 regulates the VIN to VOUT voltage for dropout conditions. It will also pull current from this pin to charge the boost capacitor when needed. Connect this pin to the output. If programmed output is greater than (See Datasheet)", 3 EN/UVLO (in) "The part is in shutdown when this pin is low and active when this pin is high. The threshold voltage is 1.19V going up with 30mV of hysteresis. Tie to VIN if shutdown feature is not used. The EN/UVLO threshold is accurate (See Datasheet)", 4 VIN (power) "The VIN pin supplies current to the LT3973's  internal circuitry and to the internal power switch. This pin must be locally bypassed.", 5 GND (power) "Ground. The exposed pad must be soldered to the PCB.", 6 SW (power) "The SW pin is the output of an internal power switch. Connect this pin to the inductor.", 7 BOOST "This pin is used to provide a drive voltage, higher than the input voltage, to the internal bipolar NPN power switch.", 8 BD (power) "This pin connects to the anode of the boost diode. This pin also supplies current to the LT3973's internal  regulator when BD is above 3.2V.", 9 PG (oc) "The PG pin is the open-drain output of an internal comparator. PG remains low until the FB pin is within 10% of the final regulation voltage. PG is valid when VIN is above 4.2V and EN/UVLO is high.", 10 RT "A resistor is tied between RT and ground to set the switching frequency.", 11 EP (power) "Ground. The exposed pad must be soldered to the PCB."

## LT3973EMSE-5#TRPBF
designator U?
750 mA Step-Down Regulator with 2.5 uA Quiescent Current and Integrated Diodes, 10-pin SOP (MSE-10-EDP), -40 to 125 degC, Pb-Free, Tape and Reel; Manufacturer: Linear Technology; PartNumber: LT3973EMSE-5#TRPBF; Frequency Adjust Range: 200kHz - 2.2MHz; Number of Outputs: 1; DatasheetVersion: Rev. A; PackageVersion: Rev. I, 05/2013; PackageReference: MSE-10; PackageDescription: 10-Pin Plastic MSOP, Exposed Die Pad, Body 3 x 3 mm, Pitch 0.5 mm; Supplier 1: Digi-Key; Supplier Part Number 1: LT3973EMSE-5#TRPBF-ND; Packing: Tape and Reel; RoHS: TRUE; Mounting Technology: Surface Mount; ComponentLink1Description: Manufacturer URL; ComponentLink1URL: http://www.linear.com/; ComponentLink2Description: Datasheet; ComponentLink2URL: http://cds.linear.com/docs/en/datasheet/3973fa.pdf; ComponentLink3Description: Package Specification; ComponentLink3URL: http://cds.linear.com/docs/en/packaging/05081664_I_MSE.pdf
footprint LT-MSE-10-EDP_N (SOP, 10-Leads, Body 3.1x3.1mm, Pitch 0.5mm, Thermal Pad 1.88x1.68mm, IPC Medium Density)
footprint LT-MSE-10-EDP_L (SOP, 10-Leads, Body 3.1x3.1mm, Pitch 0.5mm, Thermal Pad 1.88x1.68mm, IPC High Density)
footprint LT-MSE-10-EDP_M (SOP, 10-Leads, Body 3.1x3.1mm, Pitch 0.5mm, Thermal Pad 1.88x1.68mm, IPC Low Density)
pins: 1 VOUT (in) "The  LT3973-3.3 and LT3973-5 regulate the VOUT pin to 3.3V  and 5V, respectively. This pin connects to the internal feedback divider that programs the fixed output voltage.", 2 OUT (power) "The LT3973 regulates the VIN to VOUT voltage for dropout conditions. It will also pull current from this pin to charge the boost capacitor when needed. Connect this pin to the output. If programmed output is greater than (See Datasheet)", 3 EN/UVLO (in) "The part is in shutdown when this pin is low and active when this pin is high. The threshold voltage is 1.19V going up with 30mV of hysteresis. Tie to VIN if shutdown feature is not used. The EN/UVLO threshold is accurate (See Datasheet)", 4 VIN (power) "The VIN pin supplies current to the LT3973's  internal circuitry and to the internal power switch. This pin must be locally bypassed.", 5 GND (power) "Ground. The exposed pad must be soldered to the PCB.", 6 SW (power) "The SW pin is the output of an internal power switch. Connect this pin to the inductor.", 7 BOOST "This pin is used to provide a drive voltage, higher than the input voltage, to the internal bipolar NPN power switch.", 8 BD (power) "This pin connects to the anode of the boost diode. This pin also supplies current to the LT3973's internal  regulator when BD is above 3.2V.", 9 PG (oc) "The PG pin is the open-drain output of an internal comparator. PG remains low until the FB pin is within 10% of the final regulation voltage. PG is valid when VIN is above 4.2V and EN/UVLO is high.", 10 RT "A resistor is tied between RT and ground to set the switching frequency.", 11 EP (power) "Ground. The exposed pad must be soldered to the PCB."

## LT3973HDD#PBF
designator U?
750 mA Step-Down Regulator with 2.5 uA Quiescent Current and Integrated Diodes, 10-pin SON (DD-10), -40 to 150 degC, Pb-Free; Manufacturer: Linear Technology; PartNumber: LT3973HDD#PBF; Frequency Adjust Range: 200kHz - 2.2MHz; Number of Outputs: 1; DatasheetVersion: Rev. A; PackageVersion: Rev. C, 06/2010; PackageReference: DD-10; PackageDescription: 10-Pin Plastic DFN, Body 3 x 3 mm, Pitch 0.5 mm; Supplier 1: Digi-Key; Supplier Part Number 1: LT3973HDD#PBF-ND; Supplier 2: Newark; Supplier Part Number 2: 78T4079; RoHS: TRUE; Mounting Technology: Surface Mount; Code_JEDEC: MO-229; ComponentLink1Description: Manufacturer URL; ComponentLink1URL: http://www.linear.com/; ComponentLink2Description: Datasheet; ComponentLink2URL: http://cds.linear.com/docs/en/datasheet/3973fa.pdf; ComponentLink3Description: Package Specification; ComponentLink3URL: http://cds.linear.com/docs/en/packaging/DFN_10_05-08-1699.pdf
footprint LT-DD-10_V (SON, 10-Leads, Body 3x3mm, Pitch 0.5mm, Thermal Pad 2.38x1.65mm)
pins: 1 FB (in) "The LT3973 regulates the FB  pin to 1.21V. Connect the feedback resistor divider tap  to this pin.", 2 OUT (power) "The LT3973 regulates the VIN to VOUT voltage for dropout conditions. It will also pull current from this pin to charge the boost capacitor when needed. Connect this pin to the output. If programmed output is greater than (See Datasheet)", 3 EN/UVLO (in) "The part is in shutdown when this pin is low and active when this pin is high. The threshold voltage is 1.19V going up with 30mV of hysteresis. Tie to VIN if shutdown feature is not used. The EN/UVLO threshold is accurate (See Datasheet)", 4 VIN (power) "The VIN pin supplies current to the LT3973's  internal circuitry and to the internal power switch. This pin must be locally bypassed.", 5 GND (power) "Ground. The exposed pad must be soldered to the PCB.", 6 SW (power) "The SW pin is the output of an internal power switch. Connect this pin to the inductor.", 7 BOOST "This pin is used to provide a drive voltage, higher than the input voltage, to the internal bipolar NPN power switch.", 8 BD (power) "This pin connects to the anode of the boost diode. This pin also supplies current to the LT3973's internal  regulator when BD is above 3.2V.", 9 PG (oc) "The PG pin is the open-drain output of an internal comparator. PG remains low until the FB pin is within 10% of the final regulation voltage. PG is valid when VIN is above 4.2V and EN/UVLO is high.", 10 RT "A resistor is tied between RT and ground to set the switching frequency.", 11 EP (power) "Ground. The exposed pad must be soldered to the PCB."

## LT3973HDD#TRPBF
designator U?
750 mA Step-Down Regulator with 2.5 uA Quiescent Current and Integrated Diodes, 10-pin SON (DD-10), -40 to 150 degC, Pb-Free, Tape and Reel; Manufacturer: Linear Technology; PartNumber: LT3973HDD#TRPBF; Frequency Adjust Range: 200kHz - 2.2MHz; Number of Outputs: 1; DatasheetVersion: Rev. A; PackageVersion: Rev. C, 06/2010; PackageReference: DD-10; PackageDescription: 10-Pin Plastic DFN, Body 3 x 3 mm, Pitch 0.5 mm; Supplier 1: Digi-Key; Supplier Part Number 1: LT3973HDD#TRPBF-ND; Packing: Tape and Reel; RoHS: TRUE; Mounting Technology: Surface Mount; Code_JEDEC: MO-229; ComponentLink1Description: Manufacturer URL; ComponentLink1URL: http://www.linear.com/; ComponentLink2Description: Datasheet; ComponentLink2URL: http://cds.linear.com/docs/en/datasheet/3973fa.pdf; ComponentLink3Description: Package Specification; ComponentLink3URL: http://cds.linear.com/docs/en/packaging/DFN_10_05-08-1699.pdf
footprint LT-DD-10_V (SON, 10-Leads, Body 3x3mm, Pitch 0.5mm, Thermal Pad 2.38x1.65mm)
pins: 1 FB (in) "The LT3973 regulates the FB  pin to 1.21V. Connect the feedback resistor divider tap  to this pin.", 2 OUT (power) "The LT3973 regulates the VIN to VOUT voltage for dropout conditions. It will also pull current from this pin to charge the boost capacitor when needed. Connect this pin to the output. If programmed output is greater than (See Datasheet)", 3 EN/UVLO (in) "The part is in shutdown when this pin is low and active when this pin is high. The threshold voltage is 1.19V going up with 30mV of hysteresis. Tie to VIN if shutdown feature is not used. The EN/UVLO threshold is accurate (See Datasheet)", 4 VIN (power) "The VIN pin supplies current to the LT3973's  internal circuitry and to the internal power switch. This pin must be locally bypassed.", 5 GND (power) "Ground. The exposed pad must be soldered to the PCB.", 6 SW (power) "The SW pin is the output of an internal power switch. Connect this pin to the inductor.", 7 BOOST "This pin is used to provide a drive voltage, higher than the input voltage, to the internal bipolar NPN power switch.", 8 BD (power) "This pin connects to the anode of the boost diode. This pin also supplies current to the LT3973's internal  regulator when BD is above 3.2V.", 9 PG (oc) "The PG pin is the open-drain output of an internal comparator. PG remains low until the FB pin is within 10% of the final regulation voltage. PG is valid when VIN is above 4.2V and EN/UVLO is high.", 10 RT "A resistor is tied between RT and ground to set the switching frequency.", 11 EP (power) "Ground. The exposed pad must be soldered to the PCB."